# EAGLE library part ESC2BACKPLANE (library ESC_to_Backplane_Connectors_esc)
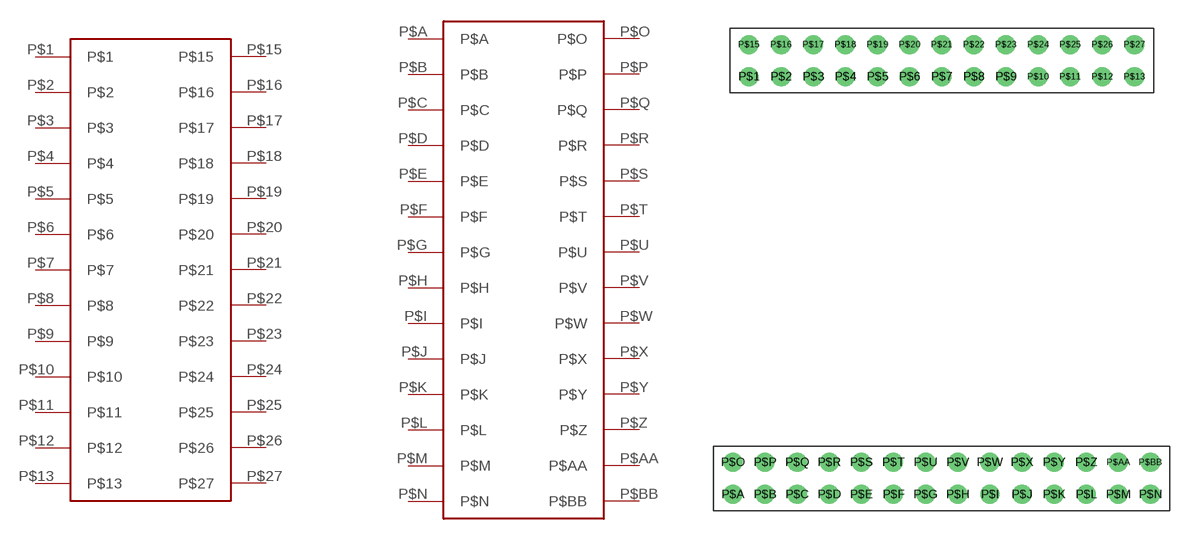
[diagram p0: symbol with the pads of ESC2BACKPLANE_WHOLE; footprint ESC2BACKPLANE_WHOLE]

Designator prefix -; gates G$1=ESC2BACKPLANE_KEY G$2=ESC2BACKPLANE_LONG

## ESC2BACKPLANE  [ESC2BACKPLANE_WHOLE]
P$1  G$1:P$1
P$2  G$1:P$2
P$3  G$1:P$3
P$4  G$1:P$4
P$5  G$1:P$5
P$6  G$1:P$6
P$7  G$1:P$7
P$8  G$1:P$8
P$9  G$1:P$9
P$10  G$1:P$10
P$11  G$1:P$11
P$12  G$1:P$12
P$13  G$1:P$13
P$15  G$1:P$15
P$16  G$1:P$16
P$17  G$1:P$17
P$18  G$1:P$18
P$19  G$1:P$19
P$20  G$1:P$20
P$21  G$1:P$21
P$22  G$1:P$22
P$23  G$1:P$23
P$24  G$1:P$24
P$25  G$1:P$25
P$26  G$1:P$26
P$27  G$1:P$27
P$A  G$2:P$A
P$AA  G$2:P$AA
P$B  G$2:P$B
P$BB  G$2:P$BB
P$C  G$2:P$C
P$D  G$2:P$D
P$E  G$2:P$E
P$F  G$2:P$F
P$G  G$2:P$G
P$H  G$2:P$H
P$I  G$2:P$I
P$J  G$2:P$J
P$K  G$2:P$K
P$L  G$2:P$L
P$M  G$2:P$M
P$N  G$2:P$N
P$O  G$2:P$O
P$P  G$2:P$P
P$Q  G$2:P$Q
P$R  G$2:P$R
P$S  G$2:P$S
P$T  G$2:P$T
P$U  G$2:P$U
P$V  G$2:P$V
P$W  G$2:P$W
P$X  G$2:P$X
P$Y  G$2:P$Y
P$Z  G$2:P$Z

## Footprint ESC2BACKPLANE_WHOLE (pad centres in mm)
drill 1: P$1 1.27,31.75; P$2 3.81,31.75; P$3 6.35,31.75; P$4 8.89,31.75; P$5 11.43,31.75; P$6 13.97,31.75; P$7 16.51,31.75; P$8 19.05,31.75; P$9 21.59,31.75; P$10 24.13,31.75; P$11 26.67,31.75; P$12 29.21,31.75; P$13 31.75,31.75; P$15 1.27,34.29; P$16 3.81,34.29; P$17 6.35,34.29; P$18 8.89,34.29; P$19 11.43,34.29; P$20 13.97,34.29; P$21 16.51,34.29; P$22 19.05,34.29; P$23 21.59,34.29; P$24 24.13,34.29; P$25 26.67,34.29; P$26 29.21,34.29; P$27 31.75,34.29; P$A 0,-1.27; P$AA 30.48,1.27; P$B 2.54,-1.27; P$BB 33.02,1.27; P$C 5.08,-1.27; P$D 7.62,-1.27; P$E 10.16,-1.27; P$F 12.7,-1.27; P$G 15.24,-1.27; P$H 17.78,-1.27; P$I 20.32,-1.27; P$J 22.86,-1.27; P$K 25.4,-1.27; P$L 27.94,-1.27; P$M 30.48,-1.27; P$N 33.02,-1.27; P$O 0,1.27; P$P 2.54,1.27; P$Q 5.08,1.27; P$R 7.62,1.27; P$S 10.16,1.27; P$T 12.7,1.27; P$U 15.24,1.27; P$V 17.78,1.27; P$W 20.32,1.27; P$X 22.86,1.27; P$Y 25.4,1.27; P$Z 27.94,1.27